# Altium footprint library WM7628CT-ND.PcbLib: 1 footprints
Each footprint in its own frame and in the unit in brackets; x right, y up, seen from the top. Pads: shape width x height; smd on the part's side, far side on the other; paste and mask are expansions set on the pad; w line width, h text height; cw(c..) or ccw(c..) is an arc to the next point about the centre after c.
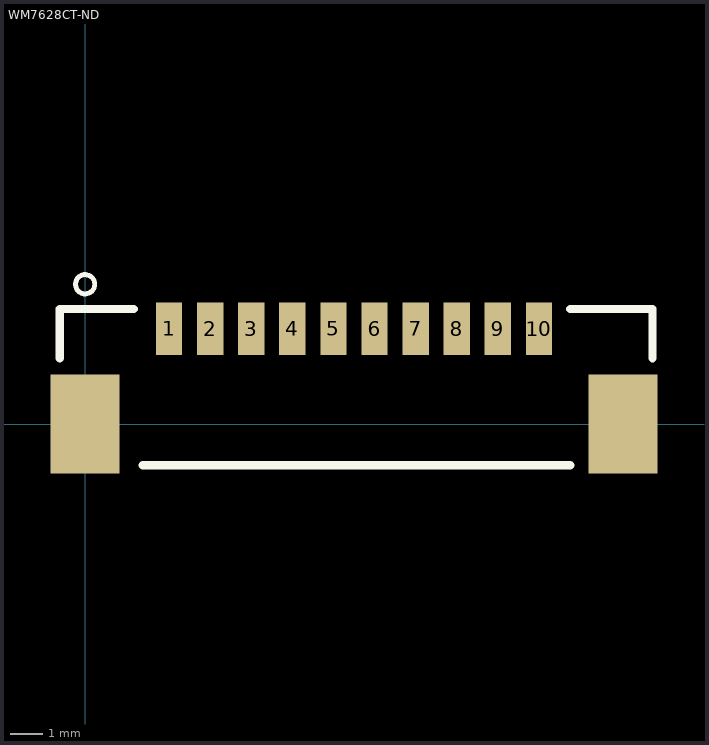
[diagram p0: the footprint, top view; thin cyan lines are the x and y axes]

## WM7628CT-ND [mm] "Molex PicoBlade 53261 10-Pos"
height 4.7
pads (12):
  rect 0.8x1.6 smd: 1(2.55,2.9) 2(3.8,2.9) 3(5.05,2.9) 4(6.3,2.9) 5(7.55,2.9) 6(8.8,2.9) 7(10.05,2.9) 8(11.3,2.9) 9(12.55,2.9) 10(13.8,2.9)
  rect 2.1x3 smd: ""(0,0) ""(16.35,0)
Top Overlay:
  circle w0.15: c0,4.25 r0.293
  lines w0.254: -0.775,2 -0.775,3.5 1.475,3.5 ; 1.75,-1.25 14.75,-1.25 ; 14.75,3.5 17.25,3.5 17.25,2
3D body "[PicoBlade 10 Pos] 532611071.stp": height 3.4, standoff 0, extent -0.57,-1.737 17.08,3.463